# Altium schematic symbol library PTA2043-2015CPB103.SchLib: 1 symbol
Pins are listed as number, name and electrical type; pins without a type are passive.

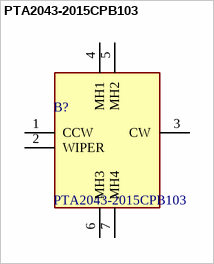
[diagram p0: symbol PTA2043-2015CPB103]

## PTA2043-2015CPB103
designator B?
10 kOhms 0.1W, 1/10W Through Hole Slide Potentiometer Top Adjustment Type; Manufacturer_Name: Bourns; Geometry.Height: 16.9mm; Mouser Part Number: 652-PTA20432015CPB10; Mouser Price/Stock: https://www.mouser.co.uk/ProductDetail/Bourns/PTA2043-2015CPB103?qs=U%2FacTlguYxYK7NNmAJCU3g%3D%3D; Manufacturer_Part_Number: PTA2043-2015CPB103; Datasheet Link: https://www.bourns.com/docs/Product-Datasheets/pta.pdf
footprint PTA20432015CPB103
pins: 1 CCW, 2 WIPER, 3 CW, 4 MH1, 5 MH2, 6 MH3, 7 MH4